# EAGLE library part MAX4238 (library IC_Linear)
Low-Noise Precision Amplifier Reference Datasheet <https://datasheets.maximintegrated.com/en/ds/MAX4238-MAX4239.pdf>
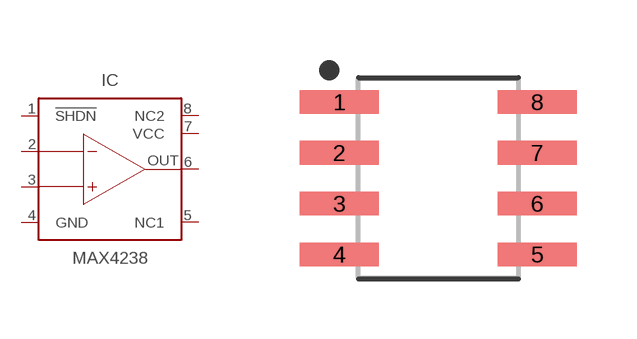
[diagram p10: symbol with the pads of SOIC127P600X175-8N; footprint SOIC127P600X175-8N]

Designator prefix IC

## MAX4238 (CATEGORY: Precision Amplifiers; DESCRIPTION: Ultra-Low Offset/Drift, Low-Noise, Precision SOT23 Amplifiers; MANUFACTURER: Analog Devices / Maxim Integrated; MPN: Generic; OPERATING_TEMP: -40°C ~ 125��C; PART_STATUS: Active; ROHS_COMPLIANT: ROHS3 Compliant; SERIES: MAX4238; SUB-CATEGORY: Amplifier ICs; TYPE: Precision Amplifiers; VALUE: MAX4238)  [SOIC127P600X175-8N]
1  !SHDN  pas
2  -IN  in
3  +IN  in
4  GND
5  NC1  pas
6  OUT  out
7  VCC
8  NC2  pas

## Footprint SOIC127P600X175-8N (pad centres in mm)
8-SOIC, 1.27 mm pitch, 6.00 mm span, 4.90 X 3.90 X 1.75 mm body 8-pin SOIC package with 1.27 mm pitch, 6.00 mm span with body size 4.90 X 3.90 X 1.75 mm
smd 1.969 x 0.592: 1 -2.474,1.905; 2 -2.474,0.635; 3 -2.474,-0.635; 4 -2.474,-1.905; 5 2.474,-1.905; 6 2.474,-0.635; 7 2.474,0.635; 8 2.474,1.905